# Altium footprint library CubeNode Footprint (1).PcbLib: 1 footprints
Each footprint in its own frame and in the unit in brackets; x right, y up, seen from the top. Pads: shape width x height; smd on the part's side, far side on the other; paste and mask are expansions set on the pad; w line width, h text height; cw(c..) or ccw(c..) is an arc to the next point about the centre after c.
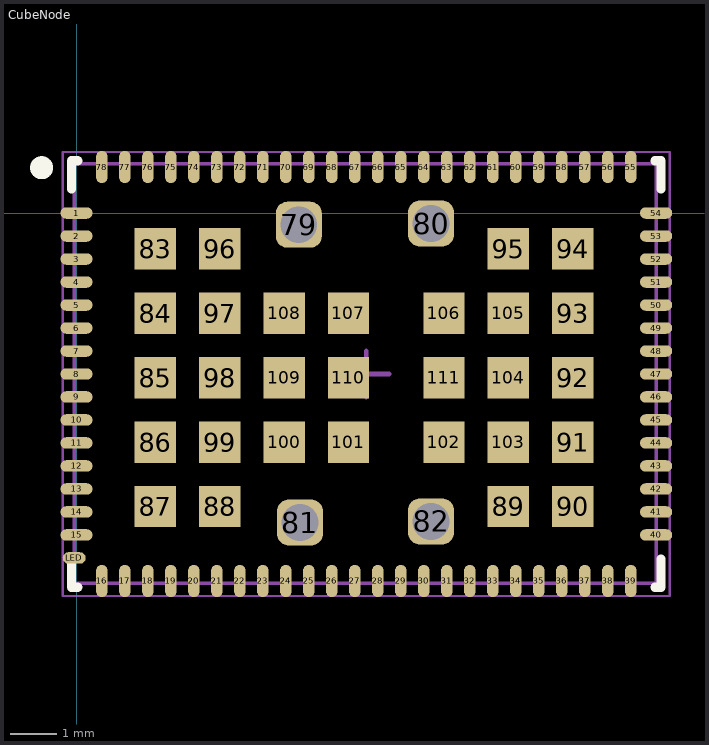
[diagram p0: the footprint, top view; thin cyan lines are the x and y axes]

## CubeNode [mm]
height 1
pads (112):
  oval 0.7x0.25 smd: 1(0,0) 2(0,-0.5) 3(0,-1) 4(0,-1.5) 5(0,-2) 6(0,-2.5) 7(0,-3) 8(0,-3.5) 9(0,-4) 10(0,-4.5) 11(0,-5) 12(0,-5.5) 13(0,-6) 14(0,-6.5) 15(0,-7) 40(12.6,-7) 41(12.6,-6.5) 42(12.6,-6) 43(12.6,-5.5) 44(12.6,-5) 45(12.6,-4.5) 46(12.6,-4) 47(12.6,-3.5) 48(12.6,-3) 49(12.6,-2.5) 50(12.6,-2) 51(12.6,-1.5) 52(12.6,-1) 53(12.6,-0.5) 54(12.6,0)
  oval 0.25x0.7 smd: 16(0.55,-8) 17(1.05,-8) 18(1.55,-8) 19(2.05,-8) 20(2.55,-8) 21(3.05,-8) 22(3.55,-8) 23(4.05,-8) 24(4.55,-8) 25(5.05,-8) 26(5.55,-8) 27(6.05,-8) 28(6.55,-8) 29(7.05,-8) 30(7.55,-8) 31(8.05,-8) 32(8.55,-8) 33(9.05,-8) 34(9.55,-8) 35(10.05,-8) 36(10.55,-8) 37(11.05,-8) 38(11.55,-8) 39(12.05,-8) 55(12.05,1) 56(11.55,1) 57(11.05,1) 58(10.55,1) 59(10.05,1) 60(9.55,1) 61(9.05,1) 62(8.55,1) 63(8.05,1) 64(7.55,1) 65(7.05,1) 66(6.55,1) 67(6.05,1) 68(5.55,1) 69(5.05,1) 70(4.55,1) 71(4.05,1) 72(3.55,1) 73(3.05,1) 74(2.55,1) 75(2.05,1) 76(1.55,1) 77(1.05,1) 78(0.55,1)
  rrect50% 1x1 hole 0.8: 79(4.832,-0.255) 80(7.707,-0.23) 81(4.857,-6.73) 82(7.707,-6.705)
  rect 0.9x0.9 smd: 83(1.713,-0.78) 84(1.713,-2.18) 85(1.713,-3.58) 86(1.713,-4.98) 87(1.713,-6.38) 88(3.113,-6.38) 89(9.389,-6.38) 90(10.789,-6.38) 91(10.789,-4.98) 92(10.789,-3.58) 93(10.789,-2.18) 94(10.789,-0.78) 95(9.389,-0.78) 96(3.113,-0.78) 97(3.113,-2.18) 98(3.113,-3.58) 99(3.113,-4.98) 100(4.513,-4.98) 101(5.913,-4.98) 102(7.989,-4.98) 103(9.389,-4.98) 104(9.389,-3.58) 105(9.389,-2.18) 106(7.989,-2.18) 107(5.913,-2.18) 108(4.513,-2.18) 109(4.513,-3.58) 110(5.913,-3.58) 111(7.989,-3.58)
  oval 0.5x0.25 smd: LED(-0.05,-7.5)
Top Overlay:
  circle w0.25: c-0.76,0.985 r0.125
  lines w0.2: -0.11,-7.525 -0.11,-8.135 0.025,-8.135 ; -0.11,0.525 -0.11,1.135 0.025,1.135 ; 12.575,-8.135 12.71,-8.135 12.71,-7.525 ; 12.575,1.135 12.71,1.135 12.71,0.525
Top 3D Body:
  lines w0.076: -0.05,-8.047 12.599,-8.047 12.599,1.072 -0.05,1.072 -0.05,-8.047
Mechanical 15:
  lines w0.05: -0.3,-8.325 12.9,-8.325 12.9,1.325 -0.3,1.325 -0.3,-8.325
  lines w0.1: 5.8,-3.5 6.8,-3.5 5.8,-3.5 ; 6.3,-4 6.3,-3 6.3,-4